# EAGLE library part MAX98090 (library cTechnologies_integratedCircuits)
The MAX98090 is a fully integrated audio codec whose high-performance, ultra-low power consumption and small footprint make it ideal for portable applications.
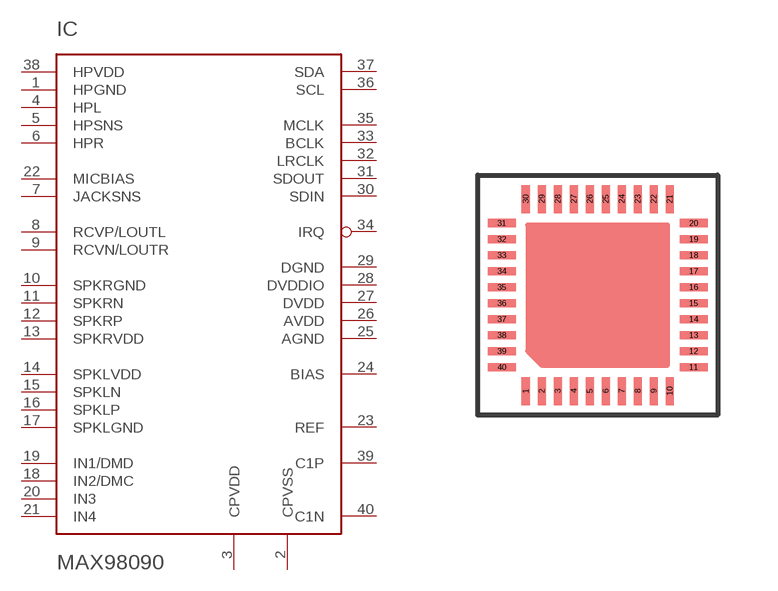
[diagram p7: symbol with the pads of QFP40-5MM_5MM; footprint QFP40-5MM_5MM]

Designator prefix IC

## MAX98090XETL+T  [QFP40-5MM_5MM]
1  HPGND
2  CPVSS
3  CPVDD
4  HPL
5  HPSNS
6  HPR
7  JACKSNS
8  RCVP/LOUTL
9  RCVN/LOUTR
10  SPKRGND
11  SPKRN
12  SPKRP
13  SPKRVDD
14  SPKLVDD
15  SPKLN
16  SPKLP
17  SPKLGND
18  IN2/DMC
19  IN1/DMD
20  IN3
21  IN4
22  MICBIAS
23  REF
24  BIAS
25  AGND
26  AVDD
27  DVDD
28  DVDDIO
29  DGND
30  SDIN
31  SDOUT
32  LRCLK
33  BCLK
34  IRQ
35  MCLK
36  SCL
37  SDA
38  HPVDD
39  C1P
40  C1N

## Footprint QFP40-5MM_5MM (pad centres in mm)
QFN40 5mm x 5mm
smd 0.2 x 0.7: 1 -1.8,-2.4; 2 -1.4,-2.4; 3 -1,-2.4; 4 -0.6,-2.4; 5 -0.2,-2.4; 6 0.2,-2.4; 7 0.6,-2.4; 8 1,-2.4; 9 1.4,-2.4; 10 1.8,-2.4; 21 1.8,2.4; 22 1.4,2.4; 23 1,2.4; 24 0.6,2.4; 25 0.2,2.4; 26 -0.2,2.4; 27 -0.6,2.4; 28 -1,2.4; 29 -1.4,2.4; 30 -1.8,2.4
smd 0.7 x 0.2: 11 2.4,-1.8; 12 2.4,-1.4; 13 2.4,-1; 14 2.4,-0.6; 15 2.4,-0.2; 16 2.4,0.2; 17 2.4,0.6; 18 2.4,1; 19 2.4,1.4; 20 2.4,1.8; 31 -2.4,1.8; 32 -2.4,1.4; 33 -2.4,1; 34 -2.4,0.6; 35 -2.4,0.2; 36 -2.4,-0.2; 37 -2.4,-0.6; 38 -2.4,-1; 39 -2.4,-1.4; 40 -2.4,-1.8